# EAGLE library part 691403900003 (library Wuerth_Elektronik_eiCan_Terminal_Blocks_v2.0)
WR-TBL Serie 4039 - 2.54mm Screwless Vertical Entry - 0.5mm2 Wires, 3 Pins
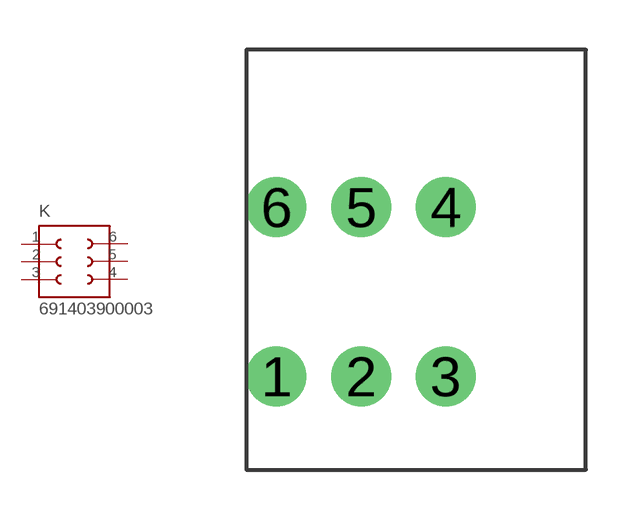
[diagram p208: symbol with the pads of 691403900003; footprint 691403900003]

Designator prefix K

## 691403900003  [691403900003]
1  1  pas
2  2  pas
3  3  pas
4  4  pas
5  5  pas
6  6  pas

## Footprint 691403900003 (pad centres in mm)
WR-TBL Serie 4039 - 2.54mm Screwless Vertical Entry - 0.5mm2 Wires, 3 Pins
drill 1.2 round: 1 -2.54,0; 2 0,0; 3 2.54,0; 4 2.54,5.08; 5 0,5.08; 6 -2.54,5.08